# Altium schematic symbol library DDR2-SODIMM.SchLib: 1 symbol
Pins are listed as number, name and electrical type; pins without a type are passive.

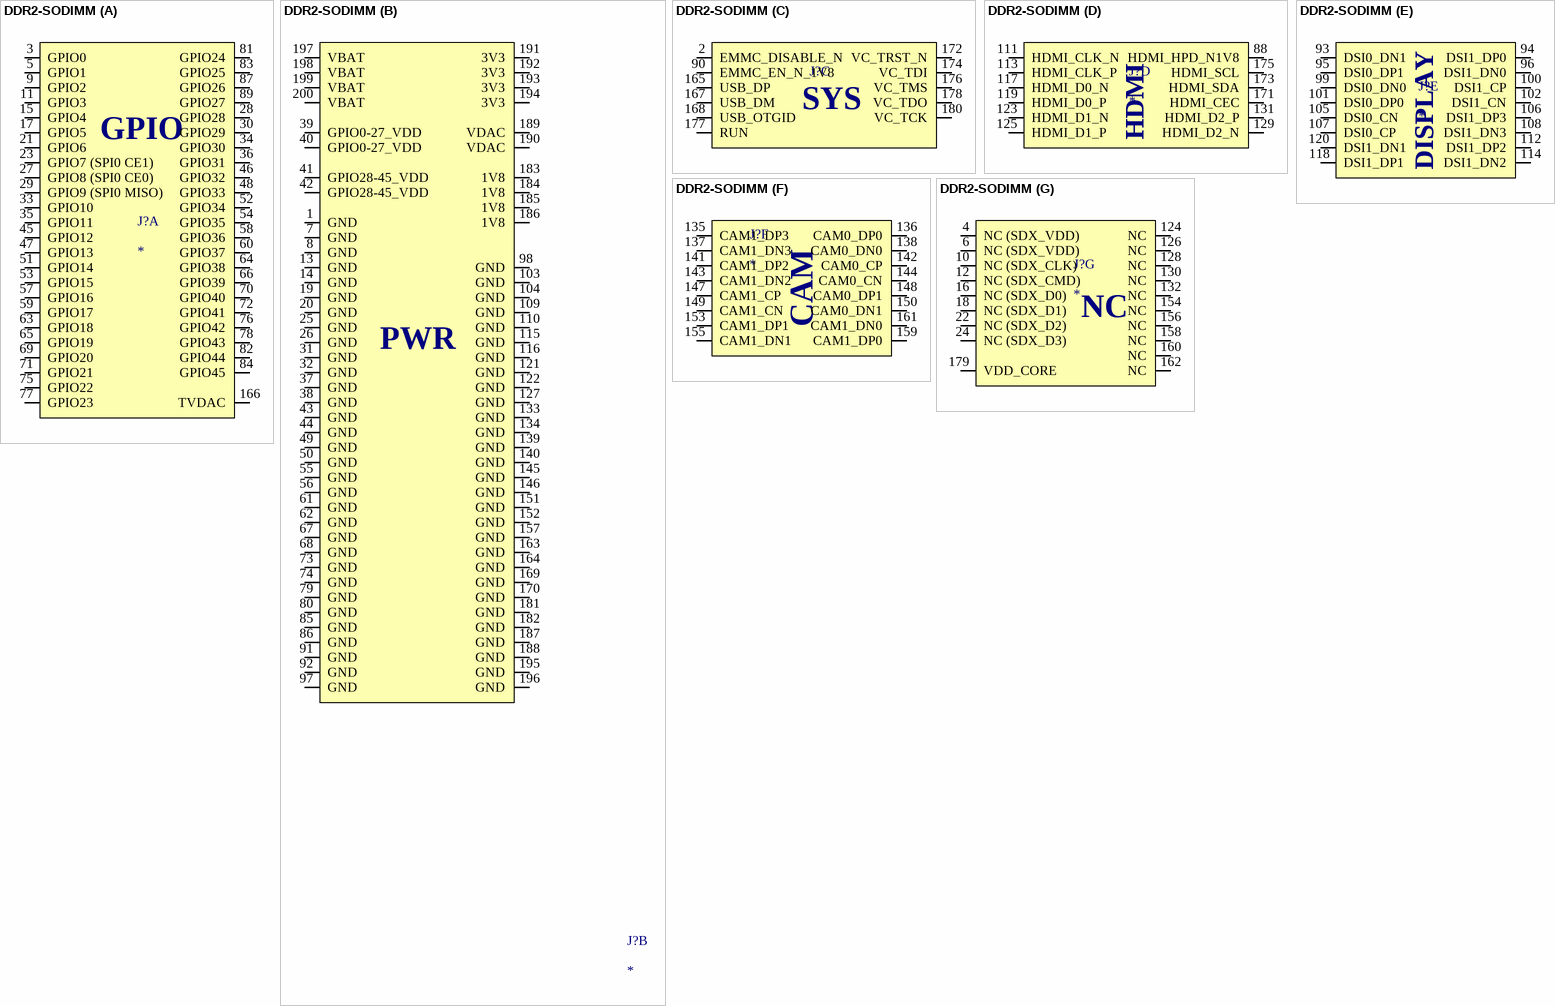
[diagram p0: symbol DDR2-SODIMM]

## DDR2-SODIMM
designator J?
part A pins: 3 GPIO0, 5 GPIO1, 9 GPIO2, 11 GPIO3, 15 GPIO4, 17 GPIO5, 21 GPIO6, 23 GPIO7 (SPI0 CE1), 27 GPIO8 (SPI0 CE0), 28 GPIO28, 29 GPIO9 (SPI0 MISO), 30 GPIO29, 33 GPIO10, 34 GPIO30, 35 GPIO11, 36 GPIO31, 45 GPIO12, 46 GPIO32, 47 GPIO13, 48 GPIO33, 51 GPIO14, 52 GPIO34, 53 GPIO15, 54 GPIO35, 57 GPIO16, 58 GPIO36, 59 GPIO17, 60 GPIO37, 63 GPIO18, 64 GPIO38, 65 GPIO19, 66 GPIO39, 69 GPIO20, 70 GPIO40, 71 GPIO21, 72 GPIO41, 75 GPIO22, 76 GPIO42, 77 GPIO23, 78 GPIO43, 81 GPIO24, 82 GPIO44, 83 GPIO25, 84 GPIO45, 87 GPIO26, 89 GPIO27, 166 TVDAC
part B pins: 1 GND, 7 GND, 8 GND, 13 GND, 14 GND, 19 GND, 20 GND, 25 GND, 26 GND, 31 GND, 32 GND, 37 GND, 38 GND, 39 GPIO0-27_VDD, 40 GPIO0-27_VDD, 41 GPIO28-45_VDD, 42 GPIO28-45_VDD, 43 GND, 44 GND, 49 GND, 50 GND, 55 GND, 56 GND, 61 GND, 62 GND, 67 GND, 68 GND, 73 GND, 74 GND, 79 GND, 80 GND, 85 GND, 86 GND, 91 GND, 92 GND, 97 GND, 98 GND, 103 GND, 104 GND, 109 GND, 110 GND, 115 GND, 116 GND, 121 GND, 122 GND, 127 GND, 133 GND, 134 GND, 139 GND, 140 GND, 145 GND, 146 GND, 151 GND, 152 GND, 157 GND, 163 GND, 164 GND, 169 GND, 170 GND, 181 GND, 182 GND, 183 1V8, 184 1V8, 185 1V8, 186 1V8, 187 GND, 188 GND, 189 VDAC, 190 VDAC, 191 3V3, 192 3V3, 193 3V3, 194 3V3, 195 GND, 196 GND, 197 VBAT, 198 VBAT, 199 VBAT, 200 VBAT
part C pins: 2 EMMC_DISABLE_N, 90 EMMC_EN_N_1V8, 165 USB_DP, 167 USB_DM, 168 USB_OTGID, 172 VC_TRST_N, 174 VC_TDI, 176 VC_TMS, 177 RUN, 178 VC_TDO, 180 VC_TCK
part D pins: 88 HDMI_HPD_N1V8, 111 HDMI_CLK_N, 113 HDMI_CLK_P, 117 HDMI_D0_N, 119 HDMI_D0_P, 123 HDMI_D1_N, 125 HDMI_D1_P, 129 HDMI_D2_N, 131 HDMI_D2_P, 171 HDMI_CEC, 173 HDMI_SDA, 175 HDMI_SCL
part E pins: 93 DSI0_DN1, 94 DSI1_DP0, 95 DSI0_DP1, 96 DSI1_DN0, 99 DSI0_DN0, 100 DSI1_CP, 101 DSI0_DP0, 102 DSI1_CN, 105 DSI0_CN, 106 DSI1_DP3, 107 DSI0_CP, 108 DSI1_DN3, 112 DSI1_DP2, 114 DSI1_DN2, 118 DSI1_DP1, 120 DSI1_DN1
part F pins: 135 CAM1_DP3, 136 CAM0_DP0, 137 CAM1_DN3, 138 CAM0_DN0, 141 CAM1_DP2, 142 CAM0_CP, 143 CAM1_DN2, 144 CAM0_CN, 147 CAM1_CP, 148 CAM0_DP1, 149 CAM1_CN, 150 CAM0_DN1, 153 CAM1_DP1, 155 CAM1_DN1, 159 CAM1_DP0, 161 CAM1_DN0
part G pins: 4 NC (SDX_VDD), 6 NC (SDX_VDD), 10 NC (SDX_CLK), 12 NC (SDX_CMD), 16 NC (SDX_D0), 18 NC (SDX_D1), 22 NC (SDX_D2), 24 NC (SDX_D3), 124 NC, 126 NC, 128 NC, 130 NC, 132 NC, 154 NC, 156 NC, 158 NC, 160 NC, 162 NC, 179 VDD_CORE
part A text: GPIO
part B text: PWR
part C text: SYS
part D text: HDMI
part E text: DISPLAY
part F text: CAM